# Altium footprint library myDevices.PcbLib: 12 footprints
Each footprint in its own frame and in the unit in brackets; x right, y up, seen from the top. Pads: shape width x height; smd on the part's side, far side on the other; paste and mask are expansions set on the pad; w line width, h text height; cw(c..) or ccw(c..) is an arc to the next point about the centre after c.
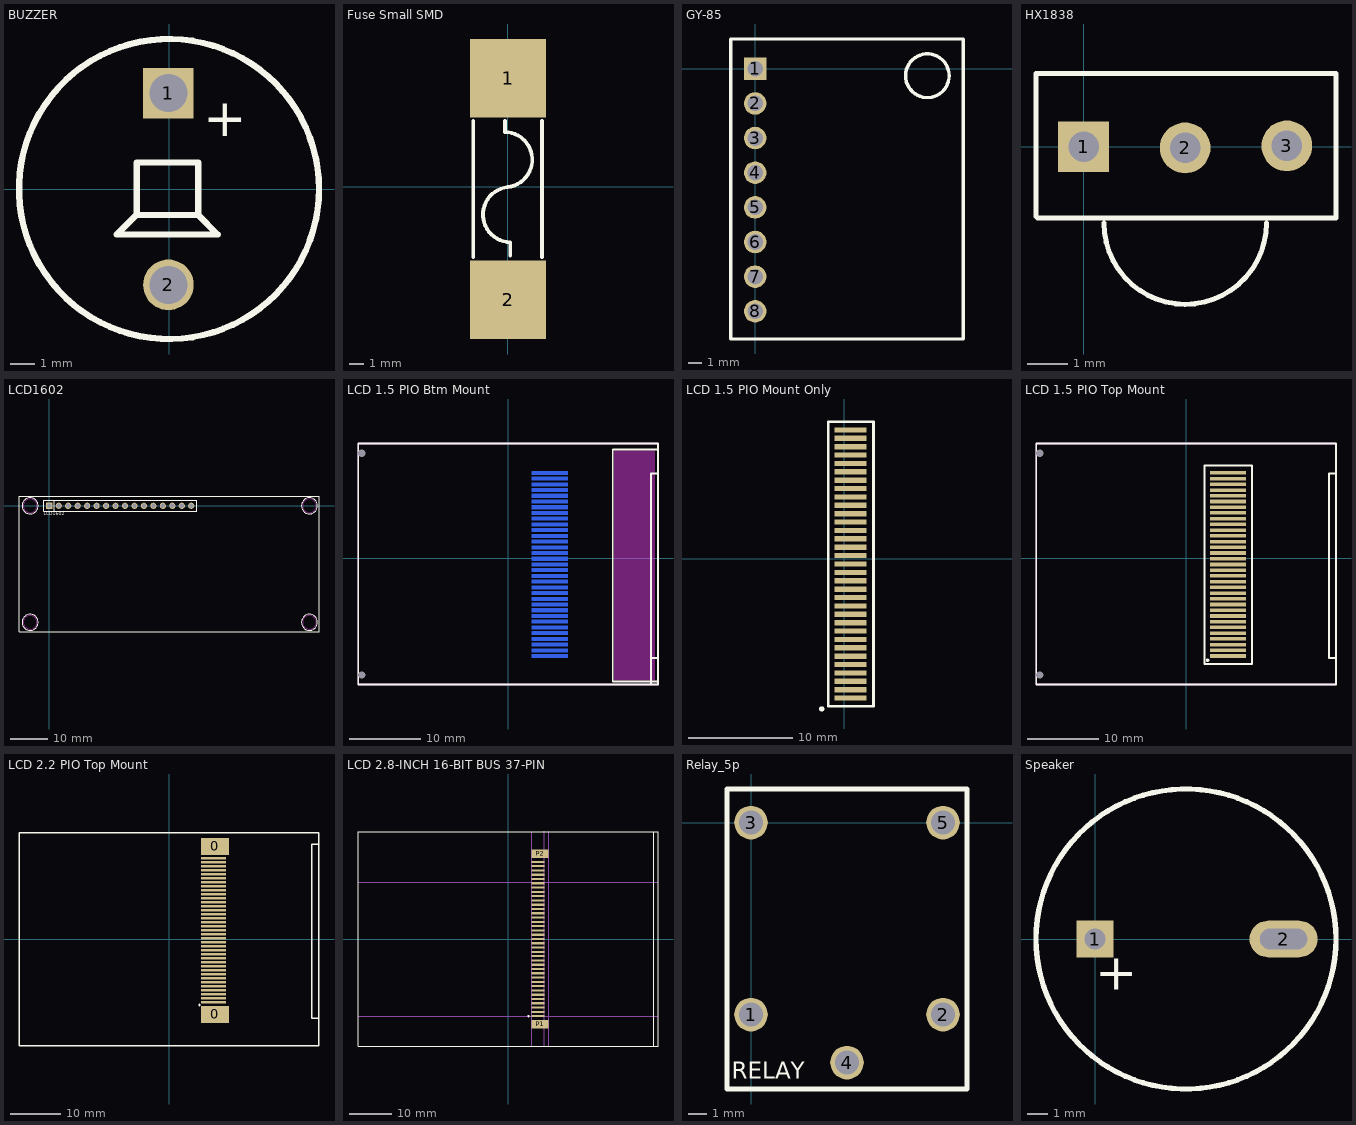
[diagram p0: the footprints below, top view; thin cyan lines are the x and y axes]

## BUZZER [mil]
pads (2):
  rect 80x80 hole 60: 1(-1,151.38)
  round 80 hole 60: 2(-1,-151.38)
Top Overlay:
  circle w10: c0,0 r237
  lines w10: -51,-40 -51,42 46,42 46,-40 ; -83,-72 -52,-41 46,-41 77,-72 -83,-72
  text "+" at 54,83 h60
3D body: height 10, standoff 0, extent -240,-235 235,235

## Fuse Small SMD [mil] "Small Fuse"
height 205
pads (2):
  rect 200x208 smd: 1(1,287) 2(1,-298)
Top Overlay:
  lines w10: -91,-185 -91,174 ; -7,174 -7,145.1 cw(c-7.89,72.1) 0.06,-0.48 ccw(c8.02,-73.05) 7.13,-146.05 7.13,-181.13 ; 91,-185 91,174
3D body: height 10, standoff 0, extent -95,-400 95,390

## GY-85 [mil]
height 130
pads (8):
  rect 65x65 hole 45: 1(0,0)
  round 65 hole 45: 2(0,-100) 3(0,-200) 4(0,-300) 5(0,-400) 6(0,-500) 7(0,-600) 8(0,-700)
Top Overlay:
  circle w10: c497,-20 r63
  lines w10: -70,-780 600,-780 600,86 -70,86 -70,-780
3D body: height 33, standoff 0, extent -70,-782 598,85

## HX1838 [mil]
pads (3):
  rect 50x50 hole 30: 1(0,0)
  round 50 hole 30: 2(100,-1) 3(200,1)
Top Overlay:
  lines w5: -46.85,-68.58 -46.85,72 51.57,72 ; -45.42,-70 53,-70 ; 20,-75 ccw(c100,-75) 180,-75 ; 51.51,-70 149.94,-70 ; 51.58,72 150,72 248.43,72 248.42,-70 ; 148.09,-70 246.51,-70
3D body: height 10, standoff 0, extent -45,-70 250,70

## LCD1602 [mil]
height 500
pads (16):
  rect 65x65 hole 45: 1(0,0)
  round 65 hole 45: 2(100,0) 3(200,0) 4(300,0) 5(400,0) 6(500,0) 7(600,0) 8(700,0) 9(800,0) 10(900,0) 11(1000,0) 12(1100,0) 13(1200,0) 14(1300,0) 15(1400,0) 16(1500,0)
Top Overlay:
  circle w10: c-202,0 r85.15
  circle w10: c-202,-1231 r85.15
  circle w10: c2749,-1231 r85.15
  circle w10: c2749,0 r85.15
  lines w10: 50,60 50,-55 55,-60 ; -320,-1330 2850,-1330 2850,100 -320,100 -320,-1330 ; -60,-60 -60,60 1560,60 1560,-60 -60,-60
  text "LCD1602" at -60,-115 h60
Keep-Out Layer:
  circle w10: c-202,-1231 r72
  circle w10: c2749,0 r72
  circle w10: c2749,-1231 r72
  circle w10: c-202,0 r72
3D body: height 10, standoff 0, extent -60,-60 1560,60

## LCD 1.5 PIO Btm Mount [mil] "LJ41-4004A"
height 138
pads (35):
  rect 196.85x19.69 smd far side: 1(229,-539) 2(229,-507.5) 3(229,-476.01) 4(229,-444.51) 5(229,-413.02) 6(229,-381.52) 7(229,-350.02) 8(229,-318.53) 9(229,-287.03) 10(229,-255.54) 11(229,-224.04) 12(229,-192.54) 13(229,-161.05) 14(229,-129.55) 15(229,-98.06) 16(229,-66.56) 17(229,-35.06) 18(229,-3.57) 19(229,27.93) 20(229,59.43) 21(229,90.92) 22(229,122.42) 23(229,153.91) 24(229,185.41) 25(229,216.91) 26(229,248.4) 27(229,279.9) 28(229,311.39) 29(229,342.89) 30(229,374.39) 31(229,405.88) 32(229,437.38) 33(229,468.87)
  round 23.62 hole 40 unplated: MH1(-807,577) MH2(-807,-643.47)
Top Overlay:
  lines w10: 785,-695 785,465 822,465 ; 787,-550 822,-550 ; 823,-680 575,-680 575,598 824,598 ; -826,-695.77 823.61,-695.77 823.61,631 -826,631 -826,-695.77
Bottom Overlay:
  circle w9.84: c117.08,-562 r4.92
  lines w10: 100,-582 100,508 101,509 118,509 361,509 361,-582 100,-582
Keep-Out Layer:
  rectangle: 581,-674 808,592
Mechanical 13:
  lines w10: -826,631 -826,-696 -825,-695 824,-695 823,-694 823,631 -825,631
3D body: height 67, standoff 0, extent -826,-697 824,630

## LCD 1.5 PIO Mount Only [mil] "LJ41-4004A"
height 138
pads (33):
  rect 120x19.69 smd: 1(24,-524) 2(24,-492.5) 3(24,-461.01) 4(24,-429.51) 5(24,-398.02) 6(24,-366.52) 7(24,-335.02) 8(24,-303.53) 9(24,-272.03) 10(24,-240.54) 11(24,-209.04) 12(24,-177.54) 13(24,-146.05) 14(24,-114.55) 15(24,-83.06) 16(24,-51.56) 17(24,-20.06) 18(24,11.43) 19(24,42.93) 20(24,74.43) 21(24,105.92) 22(24,137.42) 23(24,168.91) 24(24,200.41) 25(24,231.91) 26(24,263.4) 27(24,294.9) 28(24,326.39) 29(24,357.89) 30(24,389.39) 31(24,420.88) 32(24,452.38) 33(24,483.87)
Top Overlay:
  circle w9.84: c-84.92,-565 r4.92
  lines w10: -60,-555 110,-555 110,515 -60,515 -60,-555
3D body: height 100, standoff 0, extent -40,-560 100,520

## LCD 1.5 PIO Top Mount [mil] "LJ41-4004A"
height 138
pads (35):
  rect 196.85x19.69 smd: 1(229,-539) 2(229,-507.5) 3(229,-476.01) 4(229,-444.51) 5(229,-413.02) 6(229,-381.52) 7(229,-350.02) 8(229,-318.53) 9(229,-287.03) 10(229,-255.54) 11(229,-224.04) 12(229,-192.54) 13(229,-161.05) 14(229,-129.55) 15(229,-98.06) 16(229,-66.56) 17(229,-35.06) 18(229,-3.57) 19(229,27.93) 20(229,59.43) 21(229,90.92) 22(229,122.42) 23(229,153.91) 24(229,185.41) 25(229,216.91) 26(229,248.4) 27(229,279.9) 28(229,311.39) 29(229,342.89) 30(229,374.39) 31(229,405.88) 32(229,437.38) 33(229,468.87)
  round 23.62 hole 40 unplated: MH1(-807,577) MH2(-807,-643.47)
Top Overlay:
  circle w9.84: c117.08,-562 r4.92
  lines w10: 100,508 100,-582 361,-582 361,509 118,509 101,509 ; 785,-549 785,465 822,465 ; 787,-550 822,-550 ; -826,-695.77 823.61,-695.77 823.61,631 -826,631 -826,-695.77
Mechanical 13:
  lines w10: -826,631 -826,-696 -825,-695 824,-695 823,-694 823,631 -825,631
3D body: height 67, standoff 0, extent -826,-697 824,630

## LCD 2.2 PIO Top Mount [mil] "DST1003PH, 2.2-inch, 320x240"
height 102
pads (39):
  rect 220x135 smd: 0(363.57,-594) 0(363.57,732)
  rect 196.85x19.69 smd: 1(352,-497.34) 2(352,-465.84) 3(352,-434.35) 4(352,-402.85) 5(352,-371.36) 6(352,-339.86) 7(352,-308.36) 8(352,-276.87) 9(352,-245.37) 10(352,-213.88) 11(352,-182.38) 12(352,-150.88) 13(352,-119.39) 14(352,-87.89) 15(352,-56.4) 16(352,-24.9) 17(352,6.6) 18(352,38.09) 19(352,69.59) 20(352,101.09) 21(352,132.58) 22(352,164.08) 23(352,195.57) 24(352,227.07) 25(352,258.57) 26(352,290.06) 27(352,321.56) 28(352,353.05) 29(352,384.55) 30(352,416.05) 31(352,447.54) 32(352,479.04) 33(352,510.53) 34(352,542.02) 35(352,573.51) 36(352,605.01) 37(352,636.51)
Top Overlay:
  circle w9.84: c240.08,-520.34 r4.92
  lines w10: 1184,-625 1125,-625 1125,750 1184,750 ; -1184,-840 -1184,840 1184,840 1184,-840 -1184,-840
3D body: height 102, standoff 0, extent -1185,-840 1185,840

## LCD 2.8-INCH 16-BIT BUS 37-PIN [mm] "LED, 2.8-INCH, 16-BIT BUS, 37-PIN"
height 4
pads (39):
  rect 3x0.5 smd: 1(6.975,-18) 2(6.975,-17) 3(6.975,-16) 4(6.975,-15) 5(6.975,-14) 6(6.975,-13) 7(6.975,-12) 8(6.975,-11) 9(6.975,-10) 10(6.975,-9) 11(6.975,-8) 12(6.975,-7) 13(6.975,-6) 14(6.975,-5) 15(6.975,-4) 16(6.975,-3) 17(6.975,-2) 18(6.975,-1) 19(6.975,0) 20(6.975,1) 21(6.975,2) 22(6.975,3) 23(6.975,4) 24(6.975,5) 25(6.975,6) 26(6.975,7) 27(6.975,8) 28(6.975,9) 29(6.975,10) 30(6.975,11) 31(6.975,12) 32(6.975,13) 33(6.975,14) 34(6.975,15) 35(6.975,16) 36(6.975,17) 37(6.975,18)
  rect 4x2 smd: P1(7.475,-19.9) P2(7.475,19.9)
Top Overlay:
  circle w0.25: c4.777,-17.983 r0.125
  lines w0.254: 34,-25 34,25 ; -35,-25 -35,25 35,25 35,-25 -35,-25
Mechanical 13:
  lines w0.254: -34.976,-18.005 34.976,-17.983 ; -34.976,13.208 34.976,13.208 ; 5.5,-24.994 5.5,24.943 ; 8.5,-24.994 8.5,24.994 ; 9.5,-24.994 9.5,24.994
3D body: height 4, standoff 0, extent -35.052,-25.019 35.052,25.019

## Relay_5p [mil]
pads (5):
  round 70 hole 50: 1(0,-400) 2(400,-400) 3(0,0) 4(200,-500) 5(400,0)
Top Overlay:
  lines w10: -50,-555 -50,70 450,70 450,-555 -50,-555
  text "RELAY" at -40,-545 h60
3D body: height 10, standoff 0, extent -50,-555 450,70

## Speaker [mil]
pads (2):
  rect 70x70 hole 40: 1(0,0)
  oval 130x70 hole 40 slot 90 at 0 deg: 2(360,0)
Top Overlay:
  circle w10: c173.64,0 r286.36
  text "+" at 0,-120 h120
3D body: height 10, standoff 0, extent -115,-290 460,285